# Altium integrated library Altium_Alutinum_Cap.IntLib: 62 symbols (part 2 of 2)
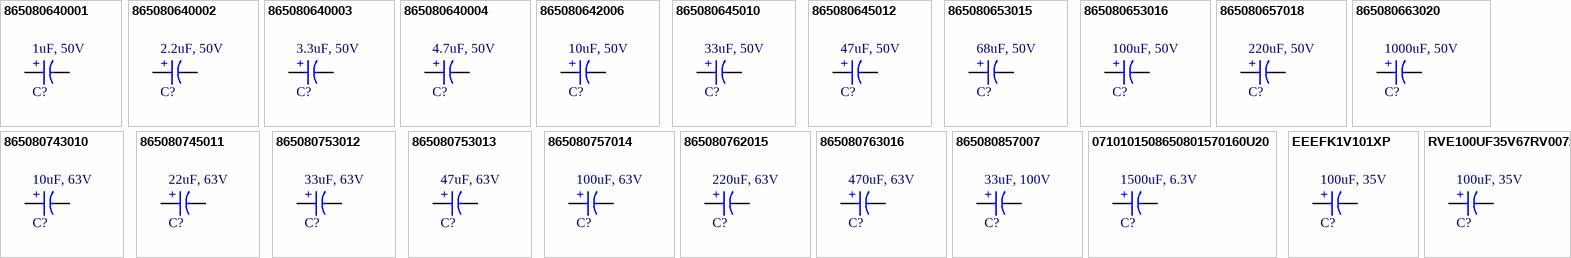
[diagram p2: symbols 865080640001 to RVE100UF35V67RV0072]

## 865080645010
designator C?, comment 33uF, 50V
V-Chip, D6.3 x H7.7mm, 33uF, 50V; Manufacturer: Wurth Elektronik; Capacitance Tolerance: +/-20%; Dissipation Factor: 12%; Endurance: 2000h; Leakage Current: 16.5uA; Ripple Current: 190mA; Category: Aluminum Electrolytic Capacitors; Mount: Surface Mount; Operating Temperature Max: 105°C; Operating Temperature Min: -55°C; Packaging: Tape and Reel; Height: 7.7mm; Diameter: 6.3mm; Capacitance: 33uF; Rated Voltage (DC): 50V; Supplier 1 URL: https://www.mouser.vn/ProductDetail/Wurth-Elektronik/865080645010?qs=0KOYDY2FL2%252BD0qNUIo4gUA%3D%3D; Supplier 3 URL: https://www.thegioiic.com/tu-nhom-smd-33uf-50v-6-3x7-7mm; Manufacturer Part Number: N/A; Supplier 2 URL: N/A; Value: 33uF, 50V; Supplier 1: Mouser; Supplier 1 Part Number: 710-865080645010; Supplier 2: Digi-Key; Supplier 2 Part Number: N/A; Supplier 3: thegioiic; Supplier 3 Part Number: N/A; ComponentLink1Description: Datasheet; ComponentLink1URL: https://www.we-online.com/redexpert/spec/865080645010?ad; LCSC Part #: N/A
footprint WCAP-ASLI_D6.3H7.7
pins: 1 P, 2 N
text: +

## 865080645012
designator C?, comment 47uF, 50V
V-Chip, D6.3 x H7.7mm, 47uF, 50V; Manufacturer: Wurth Elektronik; Capacitance Tolerance: +/-20%; Dissipation Factor: 12%; Endurance: 2000h; Leakage Current: 23.5uA; Ripple Current: 230mA; Category: Aluminum Electrolytic Capacitors; Mount: Surface Mount; Operating Temperature Max: 105°C; Operating Temperature Min: -55°C; Packaging: Tape and Reel; Height: 7.7mm; Diameter: 6.3mm; Capacitance: 47uF; Rated Voltage (DC): 50V; Supplier 1 URL: https://www.mouser.vn/ProductDetail/Wurth-Elektronik/865080645012?qs=0KOYDY2FL2%252BvvLOdOSK4rA%3D%3D&_gl=1*1ey7vig*_ga*MTg2NTM2NjU1Mi4xNjkwOTM2MTU0*_ga_15W4STQT4T*MTY5MDkzNjE1NC4xLjAuMTY5MDkzNjE1Ny4wLjAuMA..*_ga_1KQLCYKRX3*MTY5MDkzNjE1NC4xLjAuMTY5MDkzNjE1Ny41Ny4wLjA.; Supplier 3 URL: https://www.thegioiic.com/tu-nhom-smd-47uf-50v-6-3x7-7mm; Manufacturer Part Number: N/A; Supplier 2 URL: N/A; Value: 47uF, 50V; Supplier 1: Mouser; Supplier 1 Part Number: 710-865080645012; Supplier 2: Digi-Key; Supplier 2 Part Number: N/A; Supplier 3: thegioiic; Supplier 3 Part Number: N/A; ComponentLink1Description: Datasheet; ComponentLink1URL: https://www.we-online.com/redexpert/spec/865080645012?ad; LCSC Part #: N/A
footprint WCAP-ASLI_D6.3H7.7
pins: 1 P, 2 N
text: +

## 865080653015
designator C?, comment 68uF, 50V
V-Chip, D8 x H10.5mm, 68uF, 50V; Manufacturer: Wurth Elektronik; Capacitance Tolerance: +/-20%; Dissipation Factor: 12%; Endurance: 2000h; Leakage Current: 34uA; Ripple Current: 320mA; Category: Aluminum Electrolytic Capacitors; Mount: Surface Mount; Operating Temperature Max: 105°C; Operating Temperature Min: -55°C; Packaging: Tape and Reel; Height: 10.5mm; Diameter: 8mm; Capacitance: 68uF; Rated Voltage (DC): 50V; Supplier 1 URL: https://www.mouser.vn/ProductDetail/Wurth-Elektronik/865080653015?qs=0KOYDY2FL29gnHnk0OAnDA%3D%3D; Supplier 3 URL: https://www.thegioiic.com/tu-nhom-smd-68uf-50v-8x10-5mm; Manufacturer Part Number: N/A; Supplier 2 URL: N/A; Value: 68uF, 50V; Supplier 1: Mouser; Supplier 1 Part Number: 710-865080653015; Supplier 2: Digi-Key; Supplier 2 Part Number: N/A; Supplier 3: thegioiic; Supplier 3 Part Number: N/A; ComponentLink1Description: Datasheet; ComponentLink1URL: https://www.we-online.com/redexpert/spec/865080653015?ad; LCSC Part #: N/A
footprint WCAP-ASLI_D8H10.5
pins: 1 P, 2 N
text: +

## 865080653016
designator C?, comment 100uF, 50V
V-Chip, D8 x H10.5mm, 100uF, 50V; Manufacturer: Wurth Elektronik; Capacitance Tolerance: +/-20%; Dissipation Factor: 12%; Endurance: 2000h; Leakage Current: 50uA; Ripple Current: 350mA; Category: Aluminum Electrolytic Capacitors; Mount: Surface Mount; Operating Temperature Max: 105°C; Operating Temperature Min: -55°C; Packaging: Tape and Reel; Height: 10.5mm; Diameter: 8mm; Capacitance: 100uF; Rated Voltage (DC): 50V; Supplier 1 URL: https://www.mouser.vn/ProductDetail/Wurth-Elektronik/865080653016?qs=0KOYDY2FL2%2FUDYNkMs7i0Q%3D%3D; Supplier 3 URL: https://www.thegioiic.com/tu-nhom-smd-100uf-50v-8x10-5mm; Manufacturer Part Number: N/A; Supplier 2 URL: N/A; Value: 100uF, 50V; Supplier 1: Mouser; Supplier 1 Part Number: 710-865080653016; Supplier 2: Digi-Key; Supplier 2 Part Number: N/A; Supplier 3: thegioiic; Supplier 3 Part Number: N/A; ComponentLink1Description: Datasheet; ComponentLink1URL: https://www.we-online.com/redexpert/spec/865080653016?ad; LCSC Part #: C700843
footprint WCAP-ASLI_D8H10.5
pins: 1 P, 2 N
text: +

## 865080657018
designator C?, comment 220uF, 50V
V-Chip, D10 x H10.5mm, 220uF, 50V; Manufacturer: Wurth Elektronik; Capacitance Tolerance: +/-20%; Dissipation Factor: 12%; Endurance: 2000h; Leakage Current: 110uA; Ripple Current: 650mA; Category: Aluminum Electrolytic Capacitors; Mount: Surface Mount; Operating Temperature Max: 105°C; Operating Temperature Min: -55°C; Packaging: Tape and Reel; Height: 10.5mm; Diameter: 10mm; Capacitance: 220uF; Rated Voltage (DC): 50V; Supplier 1 URL: https://www.mouser.vn/ProductDetail/Wurth-Elektronik/865080657018?qs=0KOYDY2FL28CcgHzg1XTuA%3D%3D; Supplier 3 URL: https://www.thegioiic.com/tu-nhom-smd-220uf-50v-10x10-5mm; Manufacturer Part Number: N/A; Supplier 2 URL: N/A; Value: 220uF, 50V; Supplier 1: Mouser; Supplier 1 Part Number: 710-865080657018; Supplier 2: Digi-Key; Supplier 2 Part Number: N/A; Supplier 3: thegioiic; Supplier 3 Part Number: N/A; ComponentLink1Description: Datasheet; ComponentLink1URL: https://www.we-online.com/redexpert/spec/865080657018?ad; LCSC Part #: N/A
footprint WCAP-ASLI_D10H10.5
pins: 1 P, 2 N
text: +

## 865080663020
designator C?, comment 1000uF, 50V
V-Chip, D16 x H17mm, 1000uF, 50V; Manufacturer: Wurth Elektronik; Capacitance Tolerance: +/-20%; Dissipation Factor: 12%; Endurance: 5000h; Leakage Current: 500uA; Ripple Current: 1000mA; Category: Aluminum Electrolytic Capacitors; Mount: Surface Mount; Operating Temperature Max: 105°C; Operating Temperature Min: -55°C; Packaging: Tape and Reel; Height: 17mm; Diameter: 16mm; Capacitance: 1000uF; Rated Voltage (DC): 50V; Supplier 1 URL: https://www.mouser.vn/ProductDetail/Wurth-Elektronik/865080663020?qs=0KOYDY2FL28a%252B9ciq6BiMA%3D%3D; Supplier 3 URL: https://www.thegioiic.com/tu-nhom-smd-1000uf-50v-16x16-5mm; Manufacturer Part Number: N/A; Supplier 2 URL: N/A; Value: 1000uF, 50V; Supplier 1: Mouser; Supplier 1 Part Number: 710-865080663020; Supplier 2: Digi-Key; Supplier 2 Part Number: N/A; Supplier 3: thegioiic; Supplier 3 Part Number: N/A; ComponentLink1Description: Datasheet; ComponentLink1URL: https://www.we-online.com/redexpert/spec/865080663020?ad; LCSC Part #: N/A
footprint WCAP-ASLI_D16H17
pins: 1 P, 2 N
text: +

## 865080743010
designator C?, comment 10uF, 63V
V-Chip, D6.3 x H5.5mm, 10uF, 63V; Manufacturer: Wurth Elektronik; Capacitance Tolerance: +/-20%; Dissipation Factor: 12%; Endurance: 2000h; Leakage Current: 6.3uA; Ripple Current: 40mA; Category: Aluminum Electrolytic Capacitors; Mount: Surface Mount; Operating Temperature Max: 105°C; Operating Temperature Min: -55°C; Packaging: Tape and Reel; Height: 5.5mm; Diameter: 6.3mm; Capacitance: 10uF; Rated Voltage (DC): 63V; Supplier 1 URL: https://www.mouser.vn/ProductDetail/Wurth-Elektronik/865080743010?qs=amGC7iS6iy8dggk5Nbzxeg%3D%3D; Supplier 3 URL: https://www.thegioiic.com/tu-nhom-smd-10uf-63v-6-3x5-4mm; Manufacturer Part Number: N/A; Supplier 2 URL: N/A; Value: 10uF, 63V; Supplier 1: Mouser; Supplier 1 Part Number: 710-865080743010; Supplier 2: Digi-Key; Supplier 2 Part Number: N/A; Supplier 3: thegioiic; Supplier 3 Part Number: N/A; ComponentLink1Description: Datasheet; ComponentLink1URL: https://www.we-online.com/redexpert/spec/865080743010?ad; LCSC Part #: N/A
footprint WCAP-ASLI_D6.3H5.5
pins: 1 P, 2 N
text: +

## 865080745011
designator C?, comment 22uF, 63V
V-Chip, D6.3 x H7.7mm, 22uF, 63V; Manufacturer: Wurth Elektronik; Capacitance Tolerance: +/-20%; Dissipation Factor: 12%; Endurance: 2000h; Leakage Current: 13.86uA; Ripple Current: 58mA; Category: Aluminum Electrolytic Capacitors; Mount: Surface Mount; Operating Temperature Max: 105°C; Operating Temperature Min: -55°C; Packaging: Tape and Reel; Height: 7.7mm; Diameter: 6.3mm; Capacitance: 22uF; Rated Voltage (DC): 63V; Supplier 1 URL: https://www.mouser.vn/ProductDetail/Wurth-Elektronik/865080745011?qs=amGC7iS6iy%2FPRPUkpVJ4xg%3D%3D; Supplier 3 URL: https://www.thegioiic.com/tu-nhom-smd-22uf-63v-6-3x7-7mm; Manufacturer Part Number: N/A; Supplier 2 URL: N/A; Value: 22uF, 63V; Supplier 1: Mouser; Supplier 1 Part Number: 710-865080745011; Supplier 2: Digi-Key; Supplier 2 Part Number: N/A; Supplier 3: thegioiic; Supplier 3 Part Number: N/A; ComponentLink1Description: Datasheet; ComponentLink1URL: https://www.we-online.com/redexpert/spec/865080745011?ad; LCSC Part #: N/A
footprint WCAP-ASLI_D6.3H7.7
pins: 1 P, 2 N
text: +

## 865080753012
designator C?, comment 33uF, 63V
V-Chip, D8 x H10.5mm, 33uF, 63V; Manufacturer: Wurth Elektronik; Capacitance Tolerance: +/-20%; Dissipation Factor: 12%; Endurance: 2000h; Leakage Current: 20.79uA; Ripple Current: 112mA; Category: Aluminum Electrolytic Capacitors; Mount: Surface Mount; Operating Temperature Max: 105°C; Operating Temperature Min: -55°C; Packaging: Tape and Reel; Height: 10.5mm; Diameter: 8mm; Capacitance: 33uF; Rated Voltage (DC): 63V; Supplier 1 URL: https://www.mouser.vn/ProductDetail/Wurth-Elektronik/865080753012?qs=amGC7iS6iy9LpZ7o5i1vCA%3D%3D; Supplier 3 URL: https://www.thegioiic.com/tu-nhom-smd-33uf-63v-8x10-5mm; Manufacturer Part Number: N/A; Supplier 2 URL: N/A; Value: 33uF, 63V; Supplier 1: Mouser; Supplier 1 Part Number: 710-865080753012; Supplier 2: Digi-Key; Supplier 2 Part Number: N/A; Supplier 3: thegioiic; Supplier 3 Part Number: N/A; ComponentLink1Description: Datasheet; ComponentLink1URL: https://www.we-online.com/redexpert/spec/865080753012?ad; LCSC Part #: N/A
footprint WCAP-ASLI_D8H10.5
pins: 1 P, 2 N
text: +

## 865080753013
designator C?, comment 47uF, 63V
V-Chip, D8 x H10.5mm, 47uF, 63V; Manufacturer: Wurth Elektronik; Capacitance Tolerance: +/-20%; Dissipation Factor: 12%; Endurance: 2000h; Leakage Current: 29.61uA; Ripple Current: 119mA; Category: Aluminum Electrolytic Capacitors; Mount: Surface Mount; Operating Temperature Max: 105°C; Operating Temperature Min: -55°C; Packaging: Tape and Reel; Height: 10.5mm; Diameter: 8mm; Capacitance: 47uF; Rated Voltage (DC): 63V; Supplier 1 URL: https://www.mouser.vn/ProductDetail/Wurth-Elektronik/865080753013?qs=sPbYRqrBIVlAEPkE8gv8HQ%3D%3D; Supplier 3 URL: https://www.thegioiic.com/tu-nhom-smd-47uf-63v-8x10-5mm; Manufacturer Part Number: N/A; Supplier 2 URL: N/A; Value: 47uF, 63V; Supplier 1: Mouser; Supplier 1 Part Number: 710-865080753013; Supplier 2: Digi-Key; Supplier 2 Part Number: N/A; Supplier 3: thegioiic; Supplier 3 Part Number: N/A; ComponentLink1Description: Datasheet; ComponentLink1URL: https://www.we-online.com/redexpert/spec/865080753013?ad; LCSC Part #: N/A
footprint WCAP-ASLI_D8H10.5
pins: 1 P, 2 N
text: +

## 865080757014
designator C?, comment 100uF, 63V
V-Chip, D10 x H10.5mm, 100uF, 63V; Manufacturer: Wurth Elektronik; Capacitance Tolerance: +/-20%; Dissipation Factor: 12%; Endurance: 2000h; Leakage Current: 63uA; Ripple Current: 280mA; Category: Aluminum Electrolytic Capacitors; Mount: Surface Mount; Operating Temperature Max: 105°C; Operating Temperature Min: -55°C; Packaging: Tape and Reel; Height: 10.5mm; Diameter: 10mm; Capacitance: 100uF; Rated Voltage (DC): 63V; Supplier 1 URL: https://www.mouser.vn/ProductDetail/Wurth-Elektronik/865080757014?qs=amGC7iS6iy982chJlZJpjg%3D%3D; Supplier 3 URL: https://www.thegioiic.com/tu-nhom-smd-100uf-63v-10x10-5mm; Manufacturer Part Number: N/A; Supplier 2 URL: N/A; Value: 100uF, 63V; Supplier 1: Mouser; Supplier 1 Part Number: 710-865080757014; Supplier 2: Digi-Key; Supplier 2 Part Number: N/A; Supplier 3: thegioiic; Supplier 3 Part Number: N/A; ComponentLink1Description: Datasheet; ComponentLink1URL: https://www.we-online.com/redexpert/spec/865080757014?ad; LCSC Part #: N/A
footprint WCAP-ASLI_D10H10.5
pins: 1 P, 2 N
text: +

## 865080762015
designator C?, comment 220uF, 63V
V-Chip, D12.5 x H14mm, 220uF, 63V; Manufacturer: Wurth Elektronik; Capacitance Tolerance: +/-20%; Dissipation Factor: 12%; Endurance: 2000h; Leakage Current: 138.6uA; Ripple Current: 300mA; Category: Aluminum Electrolytic Capacitors; Mount: Surface Mount; Operating Temperature Max: 105°C; Operating Temperature Min: -55°C; Packaging: Tape and Reel; Height: 14mm; Diameter: 12.5mm; Capacitance: 220uF; Rated Voltage (DC): 63V; Supplier 1 URL: https://www.mouser.vn/ProductDetail/Wurth-Elektronik/865080762015?qs=amGC7iS6iy%2F230%252BmgIA1gA%3D%3D; Supplier 3 URL: https://www.thegioiic.com/tu-nhom-smd-220uf-63v-12-5x13-5mm; Manufacturer Part Number: N/A; Supplier 2 URL: N/A; Value: 220uF, 63V; Supplier 1: Mouser; Supplier 1 Part Number: 710-865080762015; Supplier 2: Digi-Key; Supplier 2 Part Number: N/A; Supplier 3: thegioiic; Supplier 3 Part Number: N/A; ComponentLink1Description: Datasheet; ComponentLink1URL: https://www.we-online.com/redexpert/spec/865080762015?ad; LCSC Part #: N/A
footprint WCAP-ASLI_D12.5H14
pins: 1 P, 2 N
text: +

## 865080763016
designator C?, comment 470uF, 63V
V-Chip, D16 x H17mm, 470uF, 63V; Manufacturer Part Number: 865080763016; Manufacturer: Wurth Elektronik; Capacitance Tolerance: +/-20%; Dissipation Factor: 12%; Endurance: 2000h; Leakage Current: 296.1uA; Ripple Current: 630mA; Category: Aluminum Electrolytic Capacitors; Mount: Surface Mount; Operating Temperature Max: 105°C; Operating Temperature Min: -55°C; Packaging: Tape and Reel; Height: 17mm; Diameter: 16mm; Capacitance: 470uF; Rated Voltage (DC): 63V; Supplier 1 URL: https://www.mouser.vn/ProductDetail/Wurth-Elektronik/865080763016?qs=amGC7iS6iy8l9M%2FRZpA48w%3D%3D; Supplier 3 URL: https://www.thegioiic.com/tu-nhom-smd-470uf-63v-16x16-5mm; Supplier 2 URL: N/A; Value: 470uF, 63V; Supplier 1: Mouser; Supplier 1 Part Number: 710-865080763016; Supplier 2: Digi-Key; Supplier 2 Part Number: N/A; Supplier 3: thegioiic; Supplier 3 Part Number: N/A; ComponentLink1Description: Datasheet; ComponentLink1URL: https://www.we-online.com/redexpert/spec/865080763016?ad; LCSC Part #: N/A
footprint WCAP-ASLI_D16H17
pins: 1 P, 2 N
text: +

## 865080857007
designator C?, comment 33uF, 100V
V-Chip, D10 x H10.5mm, 33uF, 100V; Manufacturer: Wurth Elektronik; Capacitance Tolerance: +/-20%; Dissipation Factor: 10%; Endurance: 2000h; Leakage Current: 33uA; Ripple Current: 135mA; Category: Aluminum Electrolytic Capacitors; Mount: Surface Mount; Operating Temperature Max: 105°C; Operating Temperature Min: -55°C; Packaging: Tape and Reel; Height: 10.5mm; Diameter: 10mm; Capacitance: 33uF; Rated Voltage (DC): 100V; Supplier 1 URL: https://www.mouser.vn/ProductDetail/Wurth-Elektronik/865080857007?qs=amGC7iS6iy%252Bvjc9HATq1CQ%3D%3D; Manufacturer Part Number: N/A; Supplier 2 URL: N/A; Supplier 3 URL: N/A; Value: 33uF, 100V; Supplier 1: Mouser; Supplier 1 Part Number: 710-865080857007; Supplier 2: Digi-Key; Supplier 2 Part Number: N/A; Supplier 3: thegioiic; Supplier 3 Part Number: N/A; ComponentLink1Description: Datasheet; ComponentLink1URL: https://www.we-online.com/redexpert/spec/865080857007?ad; LCSC Part #: N/A
footprint WCAP-ASLI_D10H10.5
pins: 1 P, 2 N
text: +

## 0710101508650801570160U20
designator C?, comment 1500uF, 6.3V
V-Chip, D10 x H10.5mm, 1500uF, 6.3V; Manufacturer: Wurth Elektronik; Capacitance Tolerance: +/-20%; Dissipation Factor: 24%; Endurance: 2000h; Leakage Current: 94.5uA; Ripple Current: 650mA; Category: Aluminum Electrolytic Capacitors; Mount: Surface Mount; Operating Temperature Max: 105°C; Operating Temperature Min: -55°C; Packaging: Tape and Reel; Height: 10.5mm; Diameter: 10mm; Capacitance: 1500uF; Rated Voltage (DC): 6.3V; Supplier 1 URL: https://www.mouser.vn/ProductDetail/Wurth-Elektronik/865080157016?qs=0KOYDY2FL29k8EDLGk1i5Q%3D%3D; Supplier 3 URL: https://www.mouser.vn/ProductDetail/Wurth-Elektronik/865080157016?qs=0KOYDY2FL29k8EDLGk1i5Q%3D%3D; Manufacturer Part Number: N/A; Supplier 2 URL: N/A; Value: 1500uF, 6.3V; Supplier 1: Mouser; Supplier 1 Part Number: 710-865080157016; Supplier 2: Digi-Key; Supplier 2 Part Number: N/A; Supplier 3: thegioiic; Supplier 3 Part Number: N/A; ComponentLink1Description: Datasheet; ComponentLink1URL: https://www.we-online.com/redexpert/spec/865080157016?ad; LCSC Part #: N/A
footprint WCAP-ASLI_D10H10.5
pins: 1 P, 2 N
text: +

## EEEFK1V101XP
designator C?, comment 100uF, 35V
100uF 35V 210mA@120Hz ±20% SMD,D6.3xL7.7mm Aluminum Electrolytic Capacitors - SMD ROHS; Manufacturer: PANASONIC; Manufacturer Part Number: EEEFK1V101XP; Capacitance Tolerance: +/-20%; Dissipation Factor: 14%; Endurance: 2000h; Leakage Current: 25uA; Ripple Current: 280mA; Category: Aluminum Electrolytic Capacitors; Mount: Surface Mount; Operating Temperature Max: 105°C; Operating Temperature Min: -55°C; Packaging: Tape and Reel; Height: 7.7mm; Diameter: 6.3mm; Capacitance: 100uF; Rated Voltage (DC): 35V; Supplier 3 URL: https://www.thegioiic.com/tu-nhom-smd-100uf-25v-6-3x7-7mm; Supplier 1 URL: https://www.mouser.com/ProductDetail/Panasonic/EEE-FK1V101XP?qs=qE6bgDGEOCu46KIpIgG5Yw%3D%3D; Supplier 2 URL: N/A; Value: 100uF, 35V; Supplier 1: Mouser; Supplier 1 Part Number: 667-EEE-FK1V101XP; Supplier 2: Digi-Key; Supplier 2 Part Number: N/A; Supplier 3: thegioiic; Supplier 3 Part Number: N/A; ComponentLink1Description: Datasheet; ComponentLink1URL: https://www.mouser.com/datasheet/2/315/ABA0000C1181-947564.pdf; LCSC Part #: C178560
footprint WCAP-ASLI_D6.3H7.7
pins: 1 P, 2 N
text: +

## RVE100UF35V67RV0072
designator C?, comment 100uF, 35V
100uF 35V 230mA@120Hz 600mΩ@100kHz ±20% SMD,D6.3xL7.7mm Aluminum Electrolytic Capacitors - SMD ROHS; Manufacturer: KNSCHA; Manufacturer Part Number: RVE100UF35V67RV0072; Capacitance Tolerance: +/-20%; Dissipation Factor: 14%; Endurance: 2000h; Leakage Current: 3uA; Ripple Current: 230mA; Category: Aluminum Electrolytic Capacitors; Mount: Surface Mount; Operating Temperature Max: 105°C; Operating Temperature Min: -55°C; Packaging: Tape and Reel; Height: 7.7mm; Diameter: 6.3mm; Capacitance: 100uF; Rated Voltage (DC): 35V; Supplier 3 URL: N/A; Supplier 1 URL: N/A; Supplier 2 URL: N/A; Value: 100uF, 35V; Supplier 1: Mouser; Supplier 1 Part Number: N/A; Supplier 2: Digi-Key; Supplier 2 Part Number: N/A; Supplier 3: thegioiic; Supplier 3 Part Number: N/A; ComponentLink1Description: Datasheet; ComponentLink1URL: https://www.mouser.com/datasheet/2/315/ABA0000C1181-947564.pdf; LCSC Part #: C2836437
footprint WCAP-ASLI_D6.3H7.7
pins: 1 P, 2 N
text: +